# Altium schematic symbol library IND,2.9nH,750mA,Multilayer,0402.Schlib: 1 symbol
Pins are listed as number, name and electrical type; pins without a type are passive.

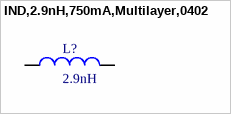
[diagram p0: symbol IND,2.9nH,750mA,Multilayer,0402]

## IND,2.9nH,750mA,Multilayer,0402
designator L?, comment 2.9nH
2.9nH Unshielded Wirewound Inductor 750mA 70mOhm Max 0402 (1005 Metric)
pins: 1, 2